# EAGLE library part 629105150921 (library WR-USB_Rev20b)
WR-COM Micro USB 2.0 Type AB Horizontal Kind Properties Durability:10 000 Mating cycles Connector Type:Micro USB Gender:Receptacle Type:Horizontal General Information Operating Temperature:-40up to +85 °C Electrical Properties Working Voltage:30V (AC) Withstanding Voltage:100V (AC) Contact Resistance:30 mΩ Material Properties Insulator Material:LCP Insulator Flammability Rating:UL94 V-0 Color:Black Contact Material:Copper Alloy Contact Plating: Gold Contact Type:Stamped Shielding Material:Stainless Steel Shielding Plating:Matte Tin <https://www.we-online.com/catalog/media/o33046v209%20Family_WR-COM_Micro_USB_629105150921.jpg> Details see: https://www.we-online.com/catalog/en/COM_MICRO_2_0_TYPE_AB_HORIZONTAL/ Updated by Ella Wu 2020-05-27 2020 (C) Würth Elektronik
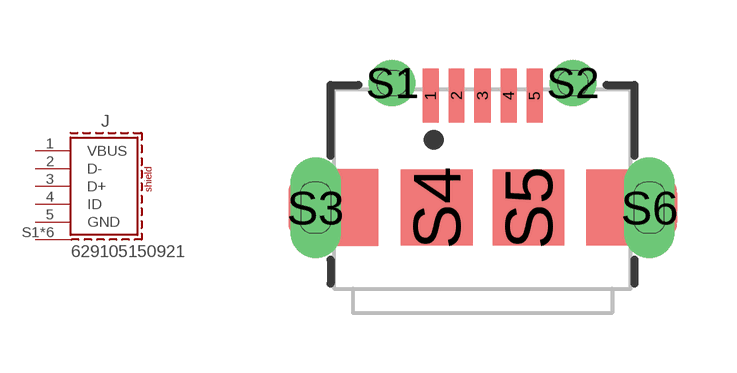
[diagram p21: symbol with the pads of 629105150921; footprint 629105150921]

Designator prefix J

## 629105150921 (APPLICATION: Micro USB 2.0; DATASHEET-URL: https://www.we-online.com/catalog/datasheet/629105150921.pdf; GERDER: Receptacle; INTERFACE-TYPE: Type AB; IR1: 1.8A; MOUNT: SMT; PACKAGING: Tape and Reel; PART-NUMBER: 629105150921; PINS: 5; TYPE: Horizontal; VALUE: 629105150921; WORKING-VOLTAGE: 30V(AC))  [629105150921]
1  VBUS  pas
2  D-  pas
3  D+  pas
4  ID  pas
5  GND  pas
S1  SHIELD  pas
S2  SHIELD  pas
S3  SHIELD  pas
S4  SHIELD  pas
S5  SHIELD  pas
S6  SHIELD  pas

## Footprint 629105150921 (pad centres in mm)
WR-COM Micro USB 2.0 Type AB Horizontal
smd 0.4 x 1.35: 1 -1.3,2.335; 2 -0.65,2.335; 3 0,2.335; 4 0.65,2.335; 5 1.3,2.335
drill 0.65 pad 1.05: S1 -2.26,2.65; S2 2.26,2.65
drill 0.75 pad 0.95 long: S3 -4.175,-0.47; S6 4.175,-0.47
smd 1.8 x 1.9: S4 -1.15,-0.47; S5 1.15,-0.47